# Altium schematic symbol library Zener_3pin.SchLib: 1 symbol
Pins are listed as number, name and electrical type; pins without a type are passive.

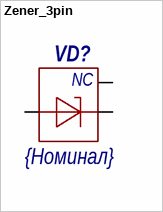
[diagram p0: symbol Zener_3pin]

## Zener_3pin
designator VD?  value {Номинал}
pins: 1, 2, 3
text: NC